# EAGLE library part 556_DUALTIMER (library ElectricNoodleBox)
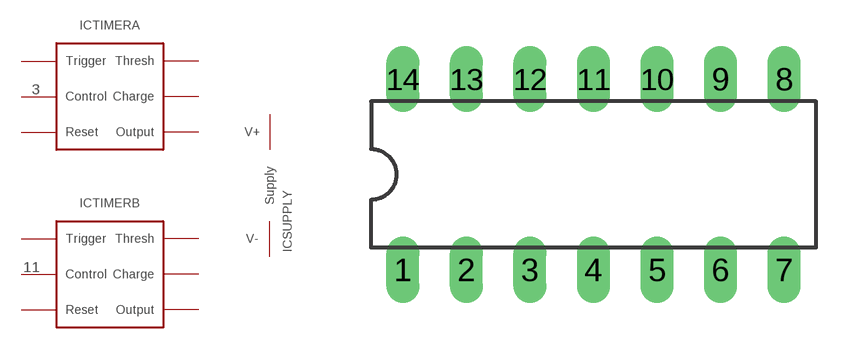
[diagram p24: symbol with the pads of DIL14; footprint DIL14]

Designator prefix IC; gates TIMERA=555 TIMERB=555 SUPPLY=SUPPLYPINS

## 556_DUALTIMERDIL14  [DIL14]
1  TIMERA:DISCHARGE
2  TIMERA:THRESHOLD
3  TIMERA:CONT
4  TIMERA:RESET
5  TIMERA:OUTPUT
6  TIMERA:TRIGGER
7  SUPPLY:V-
8  TIMERB:TRIGGER
9  TIMERB:OUTPUT
10  TIMERB:RESET
11  TIMERB:CONT
12  TIMERB:THRESHOLD
13  TIMERB:DISCHARGE
14  SUPPLY:V+

## Footprint DIL14 (pad centres in mm)
Dual In Line Package
drill 0.813 long: 1 -7.62,-3.81; 2 -5.08,-3.81; 3 -2.54,-3.81; 4 0,-3.81; 5 2.54,-3.81; 6 5.08,-3.81; 7 7.62,-3.81; 8 7.62,3.81; 9 5.08,3.81; 10 2.54,3.81; 11 0,3.81; 12 -2.54,3.81; 13 -5.08,3.81; 14 -7.62,3.81